# EAGLE library part DPDT_SW (library jason_eagle6)
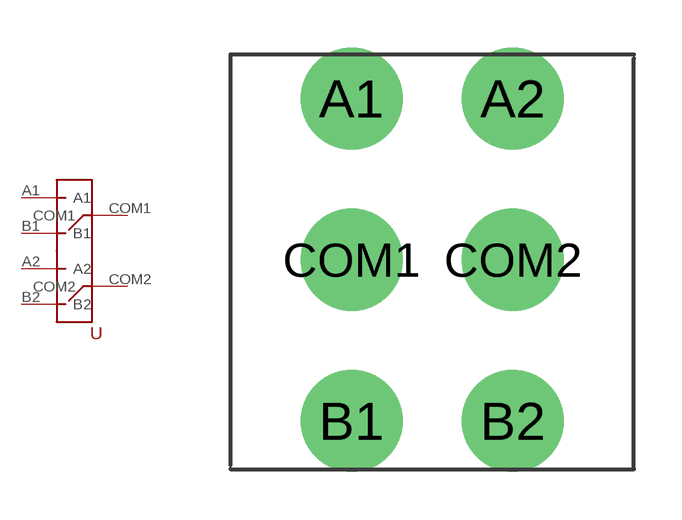
[diagram p3: symbol with the pads of DPDT_SW; footprint DPDT_SW]

Designator prefix -

## DPDT_SW  [DPDT_SW]
A1  A1
A2  A2
B1  B1
B2  B2
COM1  COM1
COM2  COM2

## Footprint DPDT_SW (pad centres in mm)
drill 2.2: A1 -2.54,5.08; A2 2.54,5.08; B1 -2.54,-5.08; B2 2.54,-5.08; COM1 -2.54,0; COM2 2.54,0